# Altium footprint library smartcar_lib.PcbLib: 126 footprints (part 2 of 8)
Each footprint in its own frame and in the unit in brackets; x right, y up, seen from the top. Pads: shape width x height; smd on the part's side, far side on the other; paste and mask are expansions set on the pad; w line width, h text height; cw(c..) or ccw(c..) is an arc to the next point about the centre after c.
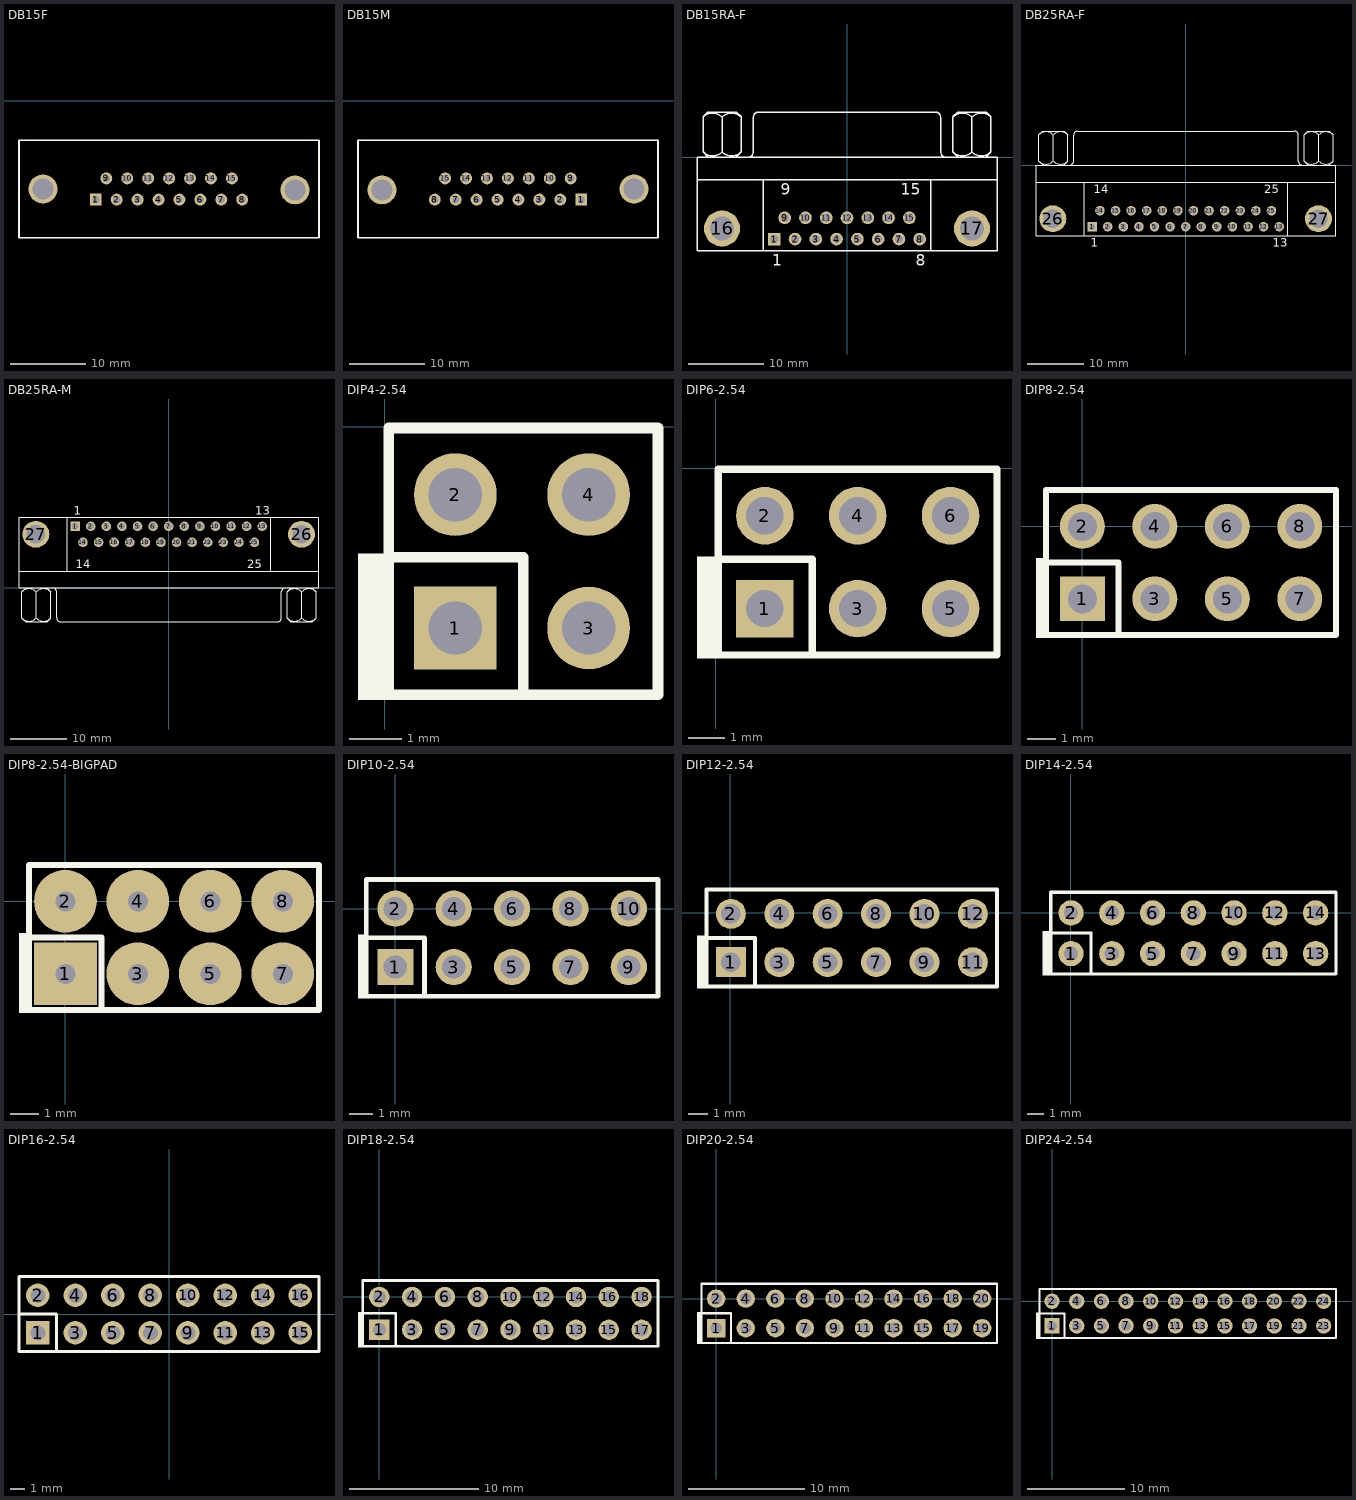
[diagram p1: the footprints below, top view; thin cyan lines are the x and y axes]

## DB15F [mil]
height 100
pads (17):
  rect 62x62 hole 38: 1(607,-515)
  round 62 hole 38: 2(716,-515) 3(825,-515) 4(934,-515) 5(1043,-515) 6(1152,-515) 7(1261,-515) 8(1370,-515) 9(662,-405) 10(771,-405) 11(880,-405) 12(989,-405) 13(1098,-405) 14(1207,-405) 15(1316,-405)
  round 150 hole 110: ""(332,-460) ""(1645,-465)
Top Overlay:
  lines w8: 207,-715 207,-205 1770,-205 1770,-715 207,-715

## DB15M [mil]
pads (17):
  rect 62x62 hole 38: 1(1369,-516)
  round 62 hole 38: 2(1260,-516) 3(1151,-516) 4(1042,-516) 5(933,-516) 6(824,-516) 7(715,-516) 8(606,-516) 9(1314,-406) 10(1205,-406) 11(1096,-406) 12(987,-406) 13(878,-406) 14(769,-406) 15(660,-406)
  round 150 hole 110: ""(331,-466) ""(1644,-461)
Top Overlay:
  lines w8: 206,-716 206,-206 1769,-206 1769,-716 206,-716

## DB15RA-F [mm] "Connector; D Subminiature AMPLIMITE 2000; 15 Position; Right Angle"
height 12.75
pads (17):
  rect 1.69x1.69 hole 1.09: 1(-9.695,-10.92)
  round 1.69 hole 1.09: 2(-6.925,-10.92) 3(-4.155,-10.92) 4(-1.385,-10.92) 5(1.385,-10.92) 6(4.155,-10.92) 7(6.925,-10.92) 8(9.695,-10.92) 9(-8.31,-8.08) 10(-5.54,-8.08) 11(-2.77,-8.08) 12(0,-8.08) 13(2.77,-8.08) 14(5.54,-8.08) 15(8.31,-8.08)
  round 4.8 hole 3.18: 16(-16.66,-9.5) 17(16.66,-9.5)
Top Overlay:
  lines w0.2: -20,-3 20,-3 ; -19.188,5.35 -19.188,0.699 -18.553,0.064 ; -19.188,5.365 -18.553,6 -14.743,6 -14.108,5.365 ; -16.648,0.699 -16.648,5.35 ; -14.743,0.064 -14.108,0.699 -14.108,5.35 ; -14.108,4.086 -14.108,4.298 ; -13.195,0.005 ccw(c-13.195,0.7) -12.5,0.7 -12.5,5.3 ; -12.495,5.305 cw(c-11.8,5.305) -11.8,6 11.8,6 cw(c11.8,5.305) 12.495,5.305 ; -11.14,-12.5 -11.14,-3 ; 11.14,-12.5 11.14,-3 ; 12.5,5.3 12.5,0.7 ccw(c13.195,0.7) 13.195,0.005 ; 14.112,5.35 14.112,0.699 14.747,0.064 ; 14.112,5.365 14.747,6 18.557,6 19.192,5.365 ; 16.652,0.699 16.652,5.35 ; 18.557,0.064 19.192,0.699 19.192,5.35 ; 19.192,4.086 19.192,4.298 ; -20,-12.5 -20,0 20,0 20,-12.5 -20,-12.5
  lines w0.203: -19.19,0.697 ccw(c-17.918,1.969) -16.646,0.697 ; -19.188,5.35 cw(c-17.916,4.078) -16.643,5.35 ; -16.652,5.35 cw(c-15.38,4.078) -14.108,5.35 ; -16.65,0.697 ccw(c-15.378,1.969) -14.106,0.697 ; 14.11,0.697 ccw(c15.382,1.969) 16.654,0.697 ; 14.112,5.35 cw(c15.384,4.078) 16.657,5.35 ; 16.648,5.35 cw(c17.92,4.078) 19.192,5.35 ; 16.65,0.697 ccw(c17.922,1.969) 19.194,0.697
  text "1" at -9.945,-14.475 h1.5
  text "8" at 9.195,-14.475 h1.5
  text "15" at 7.185,-4.975 h1.5
  text "9" at -8.81,-4.975 h1.5

## DB25RA-F [mm] "Connector; D Subminiature AMPLIMITE 2000; 25 Position; Right Angle"
height 12.75
pads (27):
  rect 1.69x1.69 hole 1.09: 1(-16.566,-10.92)
  round 1.69 hole 1.09: 2(-13.805,-10.92) 3(-11.044,-10.92) 4(-8.283,-10.92) 5(-5.522,-10.92) 6(-2.761,-10.92) 7(0,-10.92) 8(2.761,-10.92) 9(5.522,-10.92) 10(8.283,-10.92) 11(11.044,-10.92) 12(13.805,-10.92) 13(16.566,-10.92) 14(-15.185,-8.08) 15(-12.424,-8.08) 16(-9.663,-8.08) 17(-6.902,-8.08) 18(-4.142,-8.08) 19(-1.381,-8.08) 20(1.381,-8.08) 21(4.142,-8.08) 22(6.903,-8.08) 23(9.664,-8.08) 24(12.425,-8.08) 25(15.186,-8.08)
  round 4.76 hole 3.26: 26(-23.526,-9.5) 27(23.526,-9.5)
Top Overlay:
  lines w0.2: -26.496,-3 26.604,-3 ; -25.984,5.35 -25.984,0.699 -25.349,0.064 ; -25.984,5.365 -25.349,6 -21.539,6 -20.904,5.365 ; -23.444,0.699 -23.444,5.35 ; -21.539,0.064 -20.904,0.699 -20.904,5.35 ; -20.904,4.086 -20.904,4.298 ; -20.541,0.005 ccw(c-20.541,0.7) -19.846,0.7 -19.846,5.3 ; -19.841,5.305 cw(c-19.146,5.305) -19.146,6 19.254,6 cw(c19.254,5.305) 19.949,5.305 ; -17.946,-12.5 -17.946,-3 ; 18.054,-12.5 18.054,-3 ; 19.954,5.3 19.954,0.7 ccw(c20.649,0.7) 20.649,0.005 ; 21.016,5.35 21.016,0.699 21.651,0.064 ; 21.016,5.365 21.651,6 25.461,6 26.096,5.365 ; 23.556,0.699 23.556,5.35 ; 25.461,0.064 26.096,0.699 26.096,5.35 ; 26.096,4.086 26.096,4.298 ; -26.496,-12.5 26.604,-12.5 26.604,0 -26.496,0 -26.496,-12.5
  lines w0.203: -25.986,0.697 ccw(c-24.714,1.969) -23.442,0.697 ; -25.984,5.35 cw(c-24.712,4.078) -23.439,5.35 ; -23.448,5.35 cw(c-22.176,4.078) -20.904,5.35 ; -23.446,0.697 ccw(c-22.174,1.969) -20.902,0.697 ; 21.014,0.697 ccw(c22.286,1.969) 23.558,0.697 ; 21.016,5.35 cw(c22.288,4.078) 23.561,5.35 ; 23.552,5.35 cw(c24.824,4.078) 26.096,5.35 ; 23.554,0.697 ccw(c24.826,1.969) 26.098,0.697
  text "1" at -16.816,-14.475 h1.5
  text "13" at 15.441,-14.475 h1.5
  text "14" at -16.31,-4.975 h1.5
  text "25" at 13.935,-4.975 h1.5

## DB25RA-M [mm] "Connector; D Subminiature AMPLIMITE 2000; 25 Position; Right Angle"
height 12.75
pads (27):
  rect 1.69x1.69 hole 1.09: 1(-16.566,10.92)
  round 1.69 hole 1.09: 2(-13.805,10.92) 3(-11.044,10.92) 4(-8.283,10.92) 5(-5.522,10.92) 6(-2.761,10.92) 7(0,10.92) 8(2.761,10.92) 9(5.522,10.92) 10(8.283,10.92) 11(11.044,10.92) 12(13.805,10.92) 13(16.566,10.92) 14(-15.185,8.08) 15(-12.424,8.08) 16(-9.663,8.08) 17(-6.902,8.08) 18(-4.141,8.08) 19(-1.38,8.08) 20(1.381,8.08) 21(4.142,8.08) 22(6.903,8.08) 23(9.664,8.08) 24(12.425,8.08) 25(15.186,8.08)
  round 4.76 hole 3.26: 26(23.526,9.5) 27(-23.526,9.5)
Top Overlay:
  lines w0.2: -26.496,3 26.604,3 ; -25.988,-5.365 -25.353,-6 -21.543,-6 -20.908,-5.365 ; -25.988,-5.35 -25.988,-0.699 -25.353,-0.064 ; -25.988,-4.298 -25.988,-4.086 ; -23.448,-5.35 -23.448,-0.699 ; -21.543,-0.064 -20.908,-0.699 -20.908,-5.35 ; -20.541,-0.005 cw(c-20.541,-0.7) -19.846,-0.7 -19.846,-5.3 ; -19.841,-5.305 ccw(c-19.146,-5.305) -19.146,-6 19.254,-6 ccw(c19.254,-5.305) 19.949,-5.305 ; -17.946,3 -17.946,12.5 ; 18.054,3 18.054,12.5 ; 19.954,-5.3 19.954,-0.7 cw(c20.649,-0.7) 20.649,-0.005 ; 21.012,-5.365 21.647,-6 25.457,-6 26.092,-5.365 ; 21.012,-5.35 21.012,-0.699 21.647,-0.064 ; 21.012,-4.298 21.012,-4.086 ; 23.552,-5.35 23.552,-0.699 ; 25.457,-0.064 26.092,-0.699 26.092,-5.35 ; -26.496,0 -26.496,12.5 26.604,12.5 26.604,0 -26.496,0
  lines w0.203: -25.99,-0.697 cw(c-24.718,-1.969) -23.446,-0.697 ; -25.988,-5.35 ccw(c-24.716,-4.078) -23.444,-5.35 ; -23.453,-5.35 ccw(c-22.18,-4.078) -20.908,-5.35 ; -23.45,-0.697 cw(c-22.178,-1.969) -20.906,-0.697 ; 21.01,-0.697 cw(c22.282,-1.969) 23.554,-0.697 ; 21.012,-5.35 ccw(c22.284,-4.078) 23.556,-5.35 ; 23.547,-5.35 ccw(c24.82,-4.078) 26.092,-5.35 ; 23.55,-0.697 cw(c24.822,-1.969) 26.094,-0.697
  text "25" at 13.936,3.48 h1.5
  text "14" at -16.435,3.48 h1.5
  text "13" at 15.316,12.98 h1.5
  text "1" at -16.816,12.98 h1.5

## DIP4-2.54 [mil]
pads (4):
  rect 62x62 hole 40: 1(53,-151)
  round 62 hole 40: 2(53,-51) 3(153,-151) 4(153,-51)
Top Overlay:
  rectangle: -20,-205 3,-95
  lines w8: 3,-98 104,-98 104,-200 ; 3,-201 3,-1 205,-1 205,-201 3,-201

## DIP6-2.54 [mil]
pads (6):
  rect 62x62 hole 40: 1(53,-151)
  round 62 hole 40: 2(53,-51) 3(153,-151) 4(153,-51) 5(253,-151) 6(253,-51)
Top Overlay:
  rectangle: -20,-205 3,-95
  lines w8: 3,-98 104,-98 104,-200 ; 3,-201 3,-1 303,-1 303,-201 3,-201

## DIP8-2.54 [mil]
pads (8):
  rect 62x62 hole 40: 1(0,-100)
  round 62 hole 40: 2(0,0) 3(100,-100) 4(100,0) 5(200,-100) 6(200,0) 7(300,-100) 8(300,0)
Top Overlay:
  rectangle: -64,-154 -50,-44
  lines w8: -50,-50 50,-50 50,-150 ; -50,-150 -50,50 350,50 350,-150 -50,-150

## DIP8-2.54-BIGPAD [mm]
pads (8):
  rect 2.2x2.2 hole 0.7: 1(0,-2.54)
  round 2.2 hole 0.7: 2(0,0) 3(2.54,-2.54) 4(2.54,0) 5(5.08,-2.54) 6(5.08,0) 7(7.62,-2.54) 8(7.62,0)
Top Overlay:
  rectangle: -1.626,-3.912 -1.27,-1.118
  lines w0.203: -1.27,-1.27 1.27,-1.27 1.27,-3.81 ; -1.27,-3.81 -1.27,1.27 8.89,1.27 8.89,-3.81 -1.27,-3.81

## DIP10-2.54 [mil]
pads (10):
  rect 62x62 hole 40: 1(0,-100)
  round 62 hole 40: 2(0,0) 3(100,-100) 4(100,0) 5(200,-100) 6(200,0) 7(300,-100) 8(300,0) 9(400,-100) 10(400,0)
Top Overlay:
  rectangle: -64,-154 -50,-44
  lines w8: -50,-50 50,-50 50,-150 ; -50,-150 450,-150 450,50 -50,50 -50,-150

## DIP12-2.54 [mil]
pads (12):
  rect 62x62 hole 40: 1(1,-102)
  round 62 hole 40: 2(1,-2) 3(101,-102) 4(101,-2) 5(201,-102) 6(201,-2) 7(301,-102) 8(301,-2) 9(401,-102) 10(401,-2) 11(501,-102) 12(501,-2)
Top Overlay:
  rectangle: -69,-156 -49,-47
  lines w8: -49,-52 51,-52 51,-151 ; -49,-152 551,-152 551,48 -49,48 -49,-152

## DIP14-2.54 [mil]
pads (14):
  round 62 hole 35: 1(1,-99.67) 2(1,0.33) 3(101,-99.67) 4(101,0.33) 5(201,-99.67) 6(201,0.33) 7(301,-99.67) 8(301,0.33) 9(401,-99.67) 10(401,0.33) 11(501,-99.67) 12(501,0.33) 13(601,-99.67) 14(601,0.33)
Top Overlay:
  rectangle: -69,-153.67 -49,-44
  lines w8: -49,-49 49,-49 50,-50 50,-148.67 49,-149.67 ; -49,-149.67 651,-149.67 651,51 -49,51 -49,-149.67

## DIP16-2.54 [mil]
pads (16):
  rect 62x62 hole 40: 1(-350,-50)
  round 62 hole 40: 2(-350,50) 3(-250,-50) 4(-250,50) 5(-150,-50) 6(-150,50) 7(-50,-50) 8(-50,50) 9(50,-50) 10(50,50) 11(150,-50) 12(150,50) 13(250,-50) 14(250,50) 15(350,-50) 16(350,50)
Top Overlay:
  lines w8: -400,0 -300,0 -300,-100 ; -400,-100 -400,100 400,100 400,-100 -400,-100

## DIP18-2.54 [mil]
height 10
pads (18):
  rect 62x62 hole 40: 1(0,-100)
  round 62 hole 40: 2(0,0) 3(100,-100) 4(100,0) 5(200,-100) 6(200,0) 7(300,-100) 8(300,0) 9(400,-100) 10(400,0) 11(500,-100) 12(500,0) 13(600,-100) 14(600,0) 15(700,-100) 16(700,0) 17(800,-100) 18(800,0)
Top Overlay:
  rectangle: -65,-154 -50,-46
  lines w8: -50,-50 50,-50 50,-150 ; -50,-150 850,-150 850,50 -50,50 -50,-150

## DIP20-2.54 [mil]
height 10
pads (20):
  rect 62x62 hole 40: 1(0,-100)
  round 62 hole 40: 2(0,0) 3(100,-100) 4(100,0) 5(200,-100) 6(200,0) 7(300,-100) 8(300,0) 9(400,-100) 10(400,0) 11(500,-100) 12(500,0) 13(600,-100) 14(600,0) 15(700,-100) 16(700,0) 17(800,-100) 18(800,0) 19(900,-100) 20(900,0)
Top Overlay:
  rectangle: -65,-154 -50,-46
  lines w8: -50,-50 50,-50 50,-150 ; -50,-150 -50,50 950,50 950,-150 -50,-150

## DIP24-2.54 [mil]
pads (24):
  rect 62x62 hole 40: 1(0,-100)
  round 62 hole 40: 2(0,0) 3(100,-100) 4(100,0) 5(200,-100) 6(200,0) 7(300,-100) 8(300,0) 9(400,-100) 10(400,0) 11(500,-100) 12(500,0) 13(600,-100) 14(600,0) 15(700,-100) 16(700,0) 17(800,-100) 18(800,0) 19(900,-100) 20(900,0) 21(1000,-100) 22(1000,0) 23(1100,-100) 24(1100,0)
Top Overlay:
  rectangle: -65,-154 -50,-46
  lines w8: -50,-50 50,-50 50,-150 ; -50,-150 -50,50 1150,50 1150,-150 -50,-150